# Altium integrated library AMCC PowerPC 405.IntLib: 46 symbols (part 4 of 12)
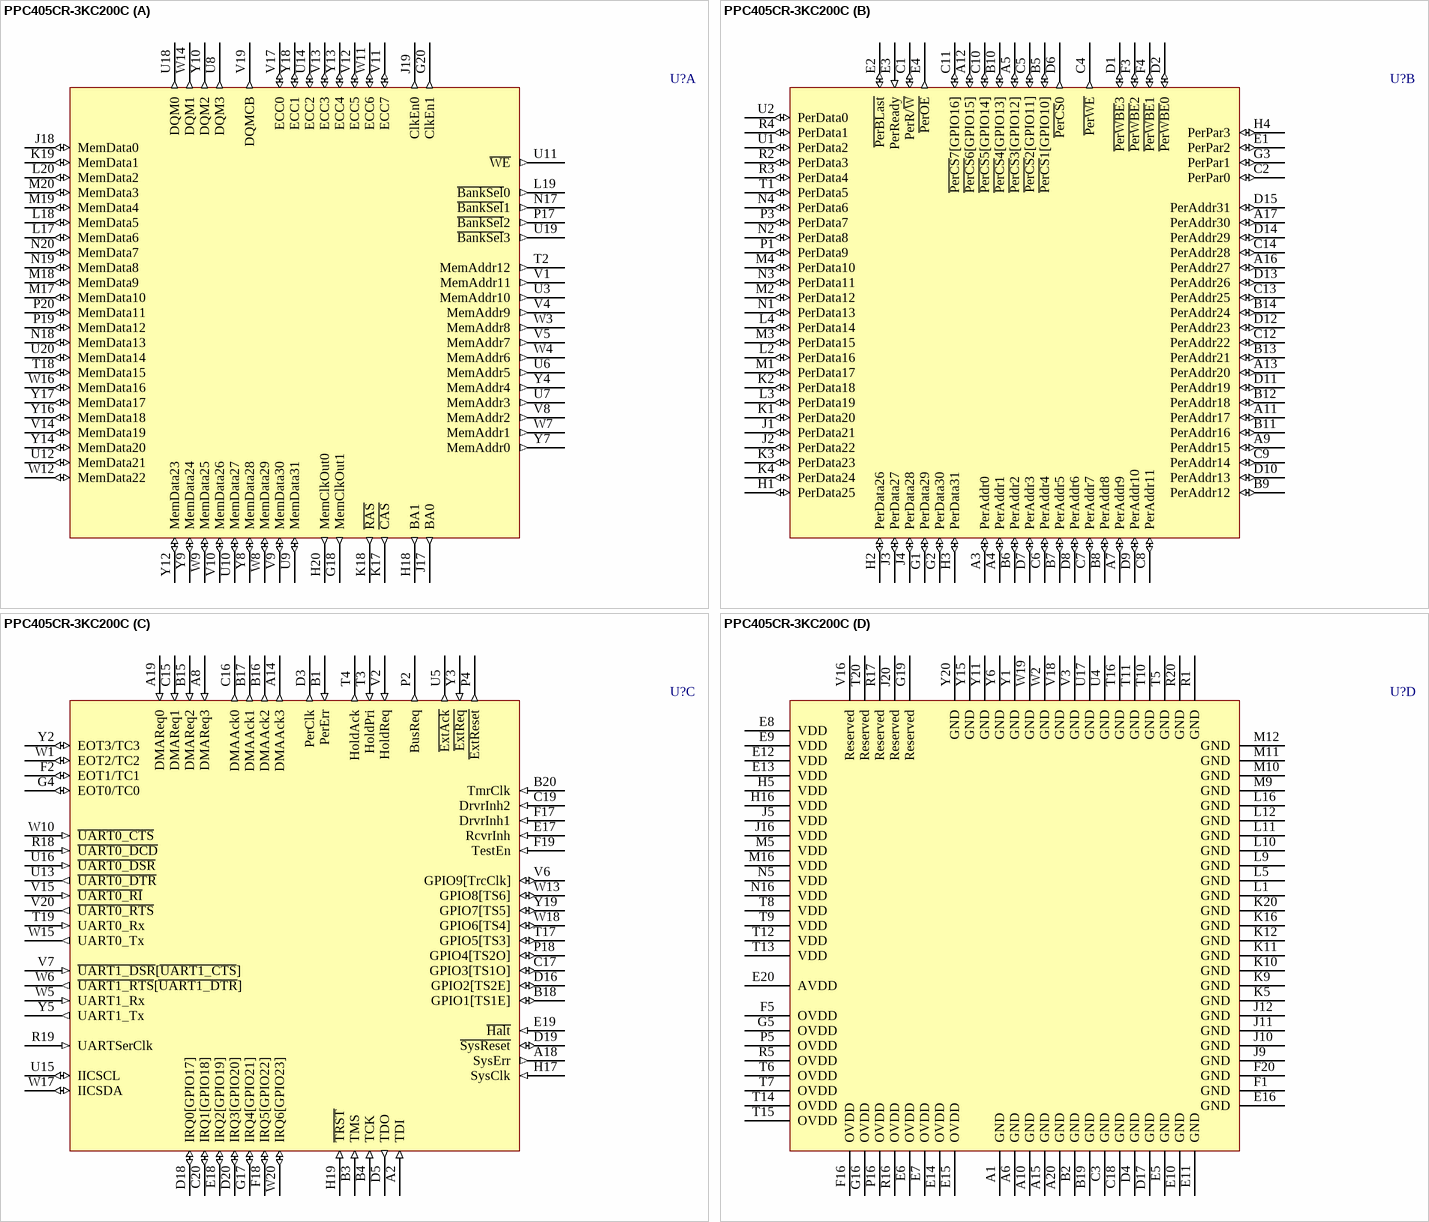
[diagram p121: symbol PPC405CR-3KC200C]

## PPC405CR-3KC200C
designator U?
PowerPC 405CR Embedded Processor, 200 MHz, 27mm, 316 Ball E-PBGA, Pb-Free; Note: Pins J9-J12, K9-K12, L9-L12, and M9-M12 are also Thermal Balls.; Note: Connect G19 to GND. Do not connect signals, VDD or GND to any other Reserved pins.; Published: 6-Jun-2005; LatestRevisionDate: 13-Apr-2006; LatestRevisionNote: IPC-7351 Footprint Added.; DatasheetVersion: rev1.02, Jan-2005; PackageVersion: Jan-2005; PackageReference: E-PBGA316; Publisher: Altium Limited; PackageDescription: 316-Ball Enhanced Plastic Ball Grid Array; ComponentLink1Description: Manufacturer Link; ComponentLink1URL: http://www.amcc.com/; ComponentLink2Description: Datasheet; ComponentLink2URL: https://www.amcc.com/MyAMCC/retrieveDocument/PowerPC/405CR/PPC405CR_DS2007__v1_02.pdf
footprint E-PBGA316 (BGA, 316-Leads, Body 27x27mm, Pitch 1.27mm)
3D model PPC405CR-BGA316 (316-Ball Enhanced Plastic Ball Grid Array)
part A pins: G18 MemClkOut1 (out) "SDRAM Clock", G20 ClkEn1 (out) "SDRAM Clock Enable", H18 BA1 (out) "Bank Address", H20 MemClkOut0 (out) "SDRAM Clock", J17 BA0 (out) "Bank Address", J18 MemData0 (io) "Memory Data Bus (msb)", J19 ClkEn0 (out) "SDRAM Clock Enable", K17 ~{CAS} (out) "Column Address Strobe", K18 ~{RAS} (out) "Row Address Strobe", K19 MemData1 (io) "Memory Data Bus", L17 MemData6 (io) "Memory Data Bus", L18 MemData5 (io) "Memory Data Bus", L19 ~{BankSel}0 (out) "Select External SDRAM Bank", L20 MemData2 (io) "Memory Data Bus", M17 MemData10 (io) "Memory Data Bus", M18 MemData9 (io) "Memory Data Bus", M19 MemData4 (io) "Memory Data Bus", M20 MemData3 (io) "Memory Data Bus", N17 ~{BankSel}1 (out) "Select External SDRAM Bank", N18 MemData13 (io) "Memory Data Bus", N19 MemData8 (io) "Memory Data Bus", N20 MemData7 (io) "Memory Data Bus", P17 ~{BankSel}2 (out) "Select External SDRAM Bank", P19 MemData12 (io) "Memory Data Bus", P20 MemData11 (io) "Memory Data Bus", T2 MemAddr12 (out) "Memory Address Bus (msb)", T18 MemData15 (io) "Memory Data Bus", U3 MemAddr10 (out) "Memory Address Bus", U6 MemAddr5 (out) "Memory Address Bus", U7 MemAddr3 (out) "Memory Address Bus", U8 DQM3 (out) "DQM for byte lane 3 (MemData 24:31)", U9 MemData31 (io) "Memory Data Bus (lsb)", U10 MemData27 (io) "Memory Data Bus", U11 ~{WE} (out) "Write Enable", U12 MemData21 (io) "Memory Data Bus", U14 ECC2 (io) "Error Checking and Correction", U18 DQM0 (out) "DQM for byte lane 0 (MemData 0:7)", U19 ~{BankSel}3 (out) "Select External SDRAM Bank", U20 MemData14 (io) "Memory Data Bus", V1 MemAddr11 (out) "Memory Address Bus", V4 MemAddr9 (out) "Memory Address Bus", V5 MemAddr7 (out) "Memory Address Bus", V8 MemAddr2 (out) "Memory Address Bus", V9 MemData30 (io) "Memory Data Bus", V10 MemData26 (io) "Memory Data Bus", V11 ECC7 (io) "Error Checking and Correction", V12 ECC5 (io) "Error Checking and Correction", V13 ECC3 (io) "Error Checking and Correction", V14 MemData19 (io) "Memory Data Bus", V17 ECC0 (io) "Error Checking and Correction", V19 DQMCB (out) "DQM for ECC check bits", W3 MemAddr8 (out) "Memory Address Bus", W4 MemAddr6 (out) "Memory Address Bus", W7 MemAddr1 (out) "Memory Address Bus", W8 MemData29 (io) "Memory Data Bus", W9 MemData25 (io) "Memory Data Bus", W11 ECC6 (io) "Error Checking and Correction", W12 MemData22 (io) "Memory Data Bus", W14 DQM1 (out) "DQM for byte lane 1 (MemData 8:15)", W16 MemData16 (io) "Memory Data Bus", Y4 MemAddr4 (out) "Memory Address Bus", Y7 MemAddr0 (out) "Memory Address Bus (lsb)", Y8 MemData28 (io) "Memory Data Bus", Y9 MemData24 (io) "Memory Data Bus", Y10 DQM2 (out) "DQM for byte lane 2 (MemData 16:23)", Y12 MemData23 (io) "Memory Data Bus", Y13 ECC4 (io) "Error Checking and Correction", Y14 MemData20 (io) "Memory Data Bus", Y16 MemData18 (io) "Memory Data Bus", Y17 MemData17 (io) "Memory Data Bus", Y18 ECC1 (io) "Error Checking and Correction"
part B pins: A3 PerAddr0 (io) "Peripheral Address Bus (msb)", A4 PerAddr1 (io) "Peripheral Address Bus", A5 ~{PerCS}3[GPIO12] (io) "Peripheral Chip Select Bank 3 or General Purpose I/O", A7 PerAddr9 (io) "Peripheral Address Bus", A9 PerAddr15 (io) "Peripheral Address Bus", A11 PerAddr17 (io) "Peripheral Address Bus", A12 ~{PerCS}6[GPIO15] (io) "Peripheral Chip Select Bank 6 or General Purpose I/O", A13 PerAddr20 (io) "Peripheral Address Bus", A16 PerAddr27 (io) "Peripheral Address Bus", A17 PerAddr30 (io) "Peripheral Address Bus", B5 ~{PerCS}1[GPIO10] (io) "Peripheral Chip Select Bank 1 or General Purpose I/O", B6 PerAddr2 (io) "Peripheral Address Bus", B7 PerAddr5 (io) "Peripheral Address Bus", B8 PerAddr8 (io) "Peripheral Address Bus", B9 PerAddr12 (io) "Peripheral Address Bus", B10 ~{PerCS}4[GPIO13] (io) "Peripheral Chip Select Bank 4 or General Purpose I/O", B11 PerAddr16 (io) "Peripheral Address Bus", B12 PerAddr18 (io) "Peripheral Address Bus", B13 PerAddr21 (io) "Peripheral Address Bus", B14 PerAddr24 (io) "Peripheral Address Bus", C1 PerR/~{W} (io) "Peripheral/DMA Controller Read/Write", C2 PerPar0 (io) "Peripheral Byte Parity Signal", C4 ~{PerWE} (out) "Peripheral Write Enable", C5 ~{PerCS}2[GPIO11] (io) "Peripheral Chip Select Bank 2 or General Purpose I/O", C6 PerAddr4 (io) "Peripheral Address Bus", C7 PerAddr7 (io) "Peripheral Address Bus", C8 PerAddr11 (io) "Peripheral Address Bus", C9 PerAddr14 (io) "Peripheral Address Bus", C10 ~{PerCS}5[GPIO14] (io) "Peripheral Chip Select Bank 5 or General Purpose I/O", C11 ~{PerCS}7[GPIO16] (io) "Peripheral Chip Select Bank 7 or General Purpose I/O", C12 PerAddr22 (io) "Peripheral Address Bus", C13 PerAddr25 (io) "Peripheral Address Bus", C14 PerAddr28 (io) "Peripheral Address Bus", D1 ~{PerWBE}3 (io) "Peripheral Write Byte Enable", D2 ~{PerWBE}0 (io) "Peripheral Write Byte Enable", D6 ~{PerCS}0 (out) "Peripheral Chip Select Bank 0", D7 PerAddr3 (io) "Peripheral Address Bus", D8 PerAddr6 (io) "Peripheral Address Bus", D9 PerAddr10 (io) "Peripheral Address Bus", D10 PerAddr13 (io) "Peripheral Address Bus", D11 PerAddr19 (io) "Peripheral Address Bus", D12 PerAddr23 (io) "Peripheral Address Bus", D13 PerAddr26 (io) "Peripheral Address Bus", D14 PerAddr29 (io) "Peripheral Address Bus", D15 PerAddr31 (io) "Peripheral Address Bus", E1 PerPar2 (io) "Peripheral Byte Parity Signal", E2 ~{PerBLast} (io) ""Last transfer of a memory access" Indicator", E3 PerReady (in) "Peripheral Slave "ready to transfer data" Indicator", E4 ~{PerOE} (out) "Peripheral/DMA Controller Output Enable", F3 ~{PerWBE}2 (io) "Peripheral Write Byte Enable", F4 ~{PerWBE}1 (io) "Peripheral Write Byte Enable", G1 PerData29 (io) "Peripheral Data Bus", G2 PerData30 (io) "Peripheral Data Bus", G3 PerPar1 (io) "Peripheral Byte Parity Signal", H1 PerData25 (io) "Peripheral Data Bus", H2 PerData26 (io) "Peripheral Data Bus", H3 PerData31 (io) "Peripheral Data Bus", H4 PerPar3 (io) "Peripheral Byte Parity Signal", J1 PerData21 (io) "Peripheral Data Bus", J2 PerData22 (io) "Peripheral Data Bus", J3 PerData27 (io) "Peripheral Data Bus", J4 PerData28 (io) "Peripheral Data Bus", K1 PerData20 (io) "Peripheral Data Bus", K2 PerData18 (io) "Peripheral Data Bus", K3 PerData23 (io) "Peripheral Data Bus", K4 PerData24 (io) "Peripheral Data Bus", L2 PerData16 (io) "Peripheral Data Bus", L3 PerData19 (io) "Peripheral Data Bus", L4 PerData14 (io) "Peripheral Data Bus", M1 PerData17 (io) "Peripheral Data Bus", M2 PerData12 (io) "Peripheral Data Bus", M3 PerData15 (io) "Peripheral Data Bus", M4 PerData10 (io) "Peripheral Data Bus", N1 PerData13 (io) "Peripheral Data Bus", N2 PerData8 (io) "Peripheral Data Bus", N3 PerData11 (io) "Peripheral Data Bus", N4 PerData6 (io) "Peripheral Data Bus", P1 PerData9 (io) "Peripheral Data Bus", P3 PerData7 (io) "Peripheral Data Bus", R2 PerData3 (io) "Peripheral Data Bus", R3 PerData4 (io) "Peripheral Data Bus", R4 PerData1 (io) "Peripheral Data Bus", T1 PerData5 (io) "Peripheral Data Bus", U1 PerData2 (io) "Peripheral Data Bus", U2 PerData0 (io) "Peripheral Data Bus (msb)"
part C pins: A2 TDI (in) "Test data in", A8 DMAReq3 (in) "Used by slave peripherals to indicate transfer data readiness", A14 DMAAck3 (out) "Indicates data transfers have occurred", A18 SysErr (out) "Set to 1 when a Machine Check is generated", A19 DMAReq0 (in) "Used by slave peripherals to indicate transfer data readiness", B1 PerErr (in) "External slave peripheral error indicator", B3 TMS (in) "JTAG test mode select", B4 TCK (in) "JTAG test clock", B15 DMAReq2 (in) "Used by slave peripherals to indicate transfer data readiness", B16 DMAAck2 (out) "Indicates data transfers have occurred", B17 DMAAck1 (out) "Indicates data transfers have occurred", B18 GPIO1[TS1E] (io) "General Purpose I/O or Even Trace execution status", B20 TmrClk (in) "External clock input", C15 DMAReq1 (in) "Used by slave peripherals to indicate transfer data readiness", C16 DMAAck0 (out) "Indicates data transfers have occurred", C17 GPIO3[TS1O] (io) "General Purpose I/O or Odd Trace execution status", C19 DrvrInh2 (in) "Driver Inhibit 2", C20 IRQ1[GPIO18] (io) "Interrupt Request or General Purpose I/O", D3 PerClk (out) "Peripheral Clock", D5 TDO (out) "Test data out", D16 GPIO2[TS2E] (io) "General Purpose I/O or Even Trace execution status", D18 IRQ0[GPIO17] (io) "Interrupt Request or General Purpose I/O", D19 ~{SysReset} (io) "Main System Reset", D20 IRQ3[GPIO20] (io) "Interrupt Request or General Purpose I/O", E17 RcvrInh (in) "Receiver Inhibit", E18 IRQ2[GPIO19] (io) "Interrupt Request or General Purpose I/O", E19 ~{Halt} (in) "Halt from external debugger", F2 EOT1/TC1 (io) "End Of Transfer 1/Terminal Count 1", F17 DrvrInh1 (in) "Driver Inhibit 1", F18 IRQ5[GPIO22] (io) "Interrupt Request or General Purpose I/O", F19 TestEn (in) "Test Enable", G4 EOT0/TC0 (io) "End Of Transfer 0/Terminal Count 0", G17 IRQ4[GPIO21] (io) "Interrupt Request or General Purpose I/O", H17 SysClk (in) "Main System Clock input", H19 ~{TRST} (in) "JTAG reset", P2 BusReq (out) "For PPC405CR to regain control of peripheral interface from an external master", P4 ~{ExtReset} (out) "Peripheral Reset", P18 GPIO4[TS2O] (io) "General Purpose I/O or Odd Trace execution status", R18 ~{UART0_DCD} (in) "UART0 Data Carrier Detect", R19 UARTSerClk (in) "UART Serial clock", T3 HoldPri (in) "External Master Priority Indicator", T4 HoldAck (out) "Hold Acknowledge", T17 GPIO5[TS3] (io) "General Purpose I/O or Trace status", T19 UART0_Rx (in) "UART0 Receive (serial data in)", U5 ~{ExtAck} (out) "Data Transfer Cycle Indicator", U13 ~{UART0_DTR} (out) "UART0 Data Terminal Ready", U15 IICSCL (io) "IIC Serial Clock", U16 ~{UART0_DSR} (in) "UART0 Data Set Ready", V2 HoldReq (in) "Hold Request", V6 GPIO9[TrcClk] (io) "General Purpose I/O or Trace interface clock", V7 ~{UART1_DSR}[~{UART1_CTS}] (in) "UART1 Data Set Ready or UART1 Clear To Send", V15 ~{UART0_RI} (in) "UART0 Ring Indicator", V20 ~{UART0_RTS} (out) "UART0 Request To Send", W1 EOT2/TC2 (io) "End Of Transfer 2/Terminal Count 2", W5 UART1_Rx (in) "UART1 Receive (serial data in)", W6 ~{UART1_RTS}[~{UART1_DTR}] (out) "UART1 Request To Send or UART1 Data Terminal Ready", W10 ~{UART0_CTS} (in) "UART0 Clear To Send", W13 GPIO8[TS6] (io) "General Purpose I/O or Trace status", W15 UART0_Tx (out) "UART0 Transmit (serial data out)", W17 IICSDA (io) "IIC Serial Data", W18 GPIO6[TS4] (io) "General Purpose I/O or Trace status", W20 IRQ6[GPIO23] (io) "Interrupt Request or General Purpose I/O", Y2 EOT3/TC3 (io) "End Of Transfer 3/Terminal Count 3", Y3 ~{ExtReq} (in) "External Master "Data transfer preparedness" Indicator", Y5 UART1_Tx (out) "UART1 Transmit (serial data out)", Y19 GPIO7[TS5] (io) "General Purpose I/O or Trace status"
part D pins: A1 GND (power) "Ground", A6 GND (power) "Ground", A10 GND (power) "Ground", A15 GND (power) "Ground", A20 GND (power) "Ground", B2 GND (power) "Ground", B19 GND (power) "Ground", C3 GND (power) "Ground", C18 GND (power) "Ground", D4 GND (power) "Ground", D17 GND (power) "Ground", E5 GND (power) "Ground", E6 OVDD (power) "Output Driver Voltage - 3.3V", E7 OVDD (power) "Output Driver Voltage - 3.3V", E8 VDD (power) "Logic Voltage - 2.5V", E9 VDD (power) "Logic Voltage - 2.5V", E10 GND (power) "Ground", E11 GND (power) "Ground", E12 VDD (power) "Logic Voltage - 2.5V", E13 VDD (power) "Logic Voltage - 2.5V", E14 OVDD (power) "Output Driver Voltage - 3.3V", E15 OVDD (power) "Output Driver Voltage - 3.3V", E16 GND (power) "Ground", E20 AVDD (power) "Filtered voltage input for PLL circuits", F1 GND (power) "Ground", F5 OVDD (power) "Output Driver Voltage - 3.3V", F16 OVDD (power) "Output Driver Voltage - 3.3V", F20 GND (power) "Ground", G5 OVDD (power) "Output Driver Voltage - 3.3V", G16 OVDD (power) "Output Driver Voltage - 3.3V", G19 Reserved "Reserve pin. Connect to GND", H5 VDD (power) "Logic Voltage - 2.5V", H16 VDD (power) "Logic Voltage - 2.5V", J5 VDD (power) "Logic Voltage - 2.5V", J9 GND (power) "Ground. Also a thermal ball", J10 GND (power) "Ground. Also a thermal ball", J11 GND (power) "Ground. Also a thermal ball", J12 GND (power) "Ground. Also a thermal ball", J16 VDD (power) "Logic Voltage - 2.5V", J20 Reserved "Reserve pin. Not to be connected to signals, VDD or GND", K5 GND (power) "Ground", K9 GND (power) "Ground. Also a thermal ball", K10 GND (power) "Ground. Also a thermal ball", K11 GND (power) "Ground. Also a thermal ball", K12 GND (power) "Ground. Also a thermal ball", K16 GND (power) "Ground", K20 GND (power) "Ground", L1 GND (power) "Ground", L5 GND (power) "Ground", L9 GND (power) "Ground. Also a thermal ball", L10 GND (power) "Ground. Also a thermal ball", L11 GND (power) "Ground. Also a thermal ball", L12 GND (power) "Ground. Also a thermal ball", L16 GND (power) "Ground", M5 VDD (power) "Logic Voltage - 2.5V", M9 GND (power) "Ground. Also a thermal ball", M10 GND (power) "Ground. Also a thermal ball", M11 GND (power) "Ground. Also a thermal ball", M12 GND (power) "Ground. Also a thermal ball", M16 VDD (power) "Logic Voltage - 2.5V", N5 VDD (power) "Logic Voltage - 2.5V", N16 VDD (power) "Logic Voltage - 2.5V", P5 OVDD (power) "Output Driver Voltage - 3.3V", P16 OVDD (power) "Output Driver Voltage - 3.3V", R1 GND (power) "Ground", R5 OVDD (power) "Output Driver Voltage - 3.3V", R16 OVDD (power) "Output Driver Voltage - 3.3V", R17 Reserved "Reserve pin. Not to be connected to signals, VDD or GND", R20 GND (power) "Ground", T5 GND (power) "Ground", T6 OVDD (power) "Output Driver Voltage - 3.3V", T7 OVDD (power) "Output Driver Voltage - 3.3V", T8 VDD (power) "Logic Voltage - 2.5V", T9 VDD (power) "Logic Voltage - 2.5V", T10 GND (power) "Ground", T11 GND (power) "Ground", T12 VDD (power) "Logic Voltage - 2.5V", T13 VDD (power) "Logic Voltage - 2.5V", T14 OVDD (power) "Output Driver Voltage - 3.3V", T15 OVDD (power) "Output Driver Voltage - 3.3V", T16 GND (power) "Ground", T20 Reserved "Reserve pin. Not to be connected to signals, VDD or GND", U4 GND (power) "Ground", U17 GND (power) "Ground", V3 GND (power) "Ground", V16 Reserved "Reserve pin. Not to be connected to signals, VDD or GND", V18 GND (power) "Ground", W2 GND (power) "Ground", W19 GND (power) "Ground", Y1 GND (power) "Ground", Y6 GND (power) "Ground", Y11 GND (power) "Ground", Y15 GND (power) "Ground", Y20 GND (power) "Ground"

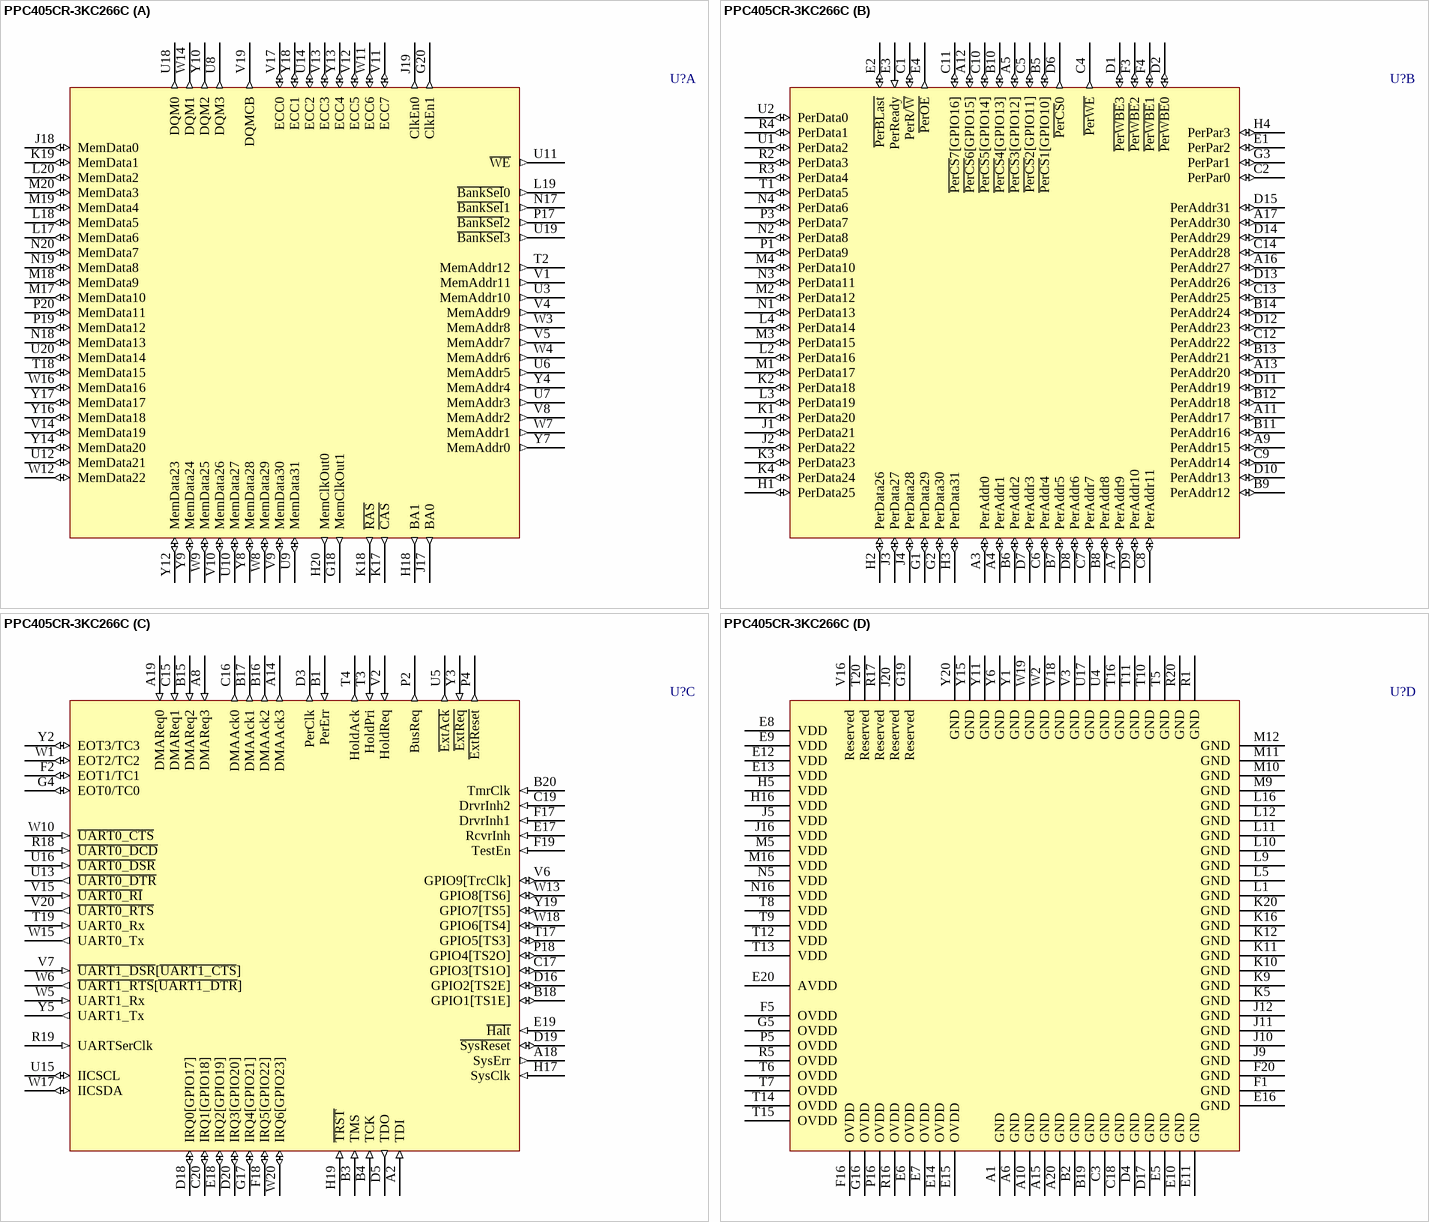
[diagram p16: symbol PPC405CR-3KC266C]

## PPC405CR-3KC266C
designator U?
PowerPC 405CR Embedded Processor, 266 MHz, 27mm, 316 Ball E-PBGA, Pb-Free; Note: Pins J9-J12, K9-K12, L9-L12, and M9-M12 are also Thermal Balls.; Note: Connect G19 to GND. Do not connect signals, VDD or GND to any other Reserved pins.; Published: 6-Jun-2005; LatestRevisionDate: 13-Apr-2006; LatestRevisionNote: IPC-7351 Footprint Added.; DatasheetVersion: rev1.02, Jan-2005; PackageVersion: Jan-2005; PackageReference: E-PBGA316; Publisher: Altium Limited; PackageDescription: 316-Ball Enhanced Plastic Ball Grid Array; ComponentLink1Description: Manufacturer Link; ComponentLink1URL: http://www.amcc.com/; ComponentLink2Description: Datasheet; ComponentLink2URL: https://www.amcc.com/MyAMCC/retrieveDocument/PowerPC/405CR/PPC405CR_DS2007__v1_02.pdf
footprint E-PBGA316 (BGA, 316-Leads, Body 27x27mm, Pitch 1.27mm)
3D model PPC405CR-BGA316 (316-Ball Enhanced Plastic Ball Grid Array)
part A pins: G18 MemClkOut1 (out) "SDRAM Clock", G20 ClkEn1 (out) "SDRAM Clock Enable", H18 BA1 (out) "Bank Address", H20 MemClkOut0 (out) "SDRAM Clock", J17 BA0 (out) "Bank Address", J18 MemData0 (io) "Memory Data Bus (msb)", J19 ClkEn0 (out) "SDRAM Clock Enable", K17 ~{CAS} (out) "Column Address Strobe", K18 ~{RAS} (out) "Row Address Strobe", K19 MemData1 (io) "Memory Data Bus", L17 MemData6 (io) "Memory Data Bus", L18 MemData5 (io) "Memory Data Bus", L19 ~{BankSel}0 (out) "Select External SDRAM Bank", L20 MemData2 (io) "Memory Data Bus", M17 MemData10 (io) "Memory Data Bus", M18 MemData9 (io) "Memory Data Bus", M19 MemData4 (io) "Memory Data Bus", M20 MemData3 (io) "Memory Data Bus", N17 ~{BankSel}1 (out) "Select External SDRAM Bank", N18 MemData13 (io) "Memory Data Bus", N19 MemData8 (io) "Memory Data Bus", N20 MemData7 (io) "Memory Data Bus", P17 ~{BankSel}2 (out) "Select External SDRAM Bank", P19 MemData12 (io) "Memory Data Bus", P20 MemData11 (io) "Memory Data Bus", T2 MemAddr12 (out) "Memory Address Bus (msb)", T18 MemData15 (io) "Memory Data Bus", U3 MemAddr10 (out) "Memory Address Bus", U6 MemAddr5 (out) "Memory Address Bus", U7 MemAddr3 (out) "Memory Address Bus", U8 DQM3 (out) "DQM for byte lane 3 (MemData 24:31)", U9 MemData31 (io) "Memory Data Bus (lsb)", U10 MemData27 (io) "Memory Data Bus", U11 ~{WE} (out) "Write Enable", U12 MemData21 (io) "Memory Data Bus", U14 ECC2 (io) "Error Checking and Correction", U18 DQM0 (out) "DQM for byte lane 0 (MemData 0:7)", U19 ~{BankSel}3 (out) "Select External SDRAM Bank", U20 MemData14 (io) "Memory Data Bus", V1 MemAddr11 (out) "Memory Address Bus", V4 MemAddr9 (out) "Memory Address Bus", V5 MemAddr7 (out) "Memory Address Bus", V8 MemAddr2 (out) "Memory Address Bus", V9 MemData30 (io) "Memory Data Bus", V10 MemData26 (io) "Memory Data Bus", V11 ECC7 (io) "Error Checking and Correction", V12 ECC5 (io) "Error Checking and Correction", V13 ECC3 (io) "Error Checking and Correction", V14 MemData19 (io) "Memory Data Bus", V17 ECC0 (io) "Error Checking and Correction", V19 DQMCB (out) "DQM for ECC check bits", W3 MemAddr8 (out) "Memory Address Bus", W4 MemAddr6 (out) "Memory Address Bus", W7 MemAddr1 (out) "Memory Address Bus", W8 MemData29 (io) "Memory Data Bus", W9 MemData25 (io) "Memory Data Bus", W11 ECC6 (io) "Error Checking and Correction", W12 MemData22 (io) "Memory Data Bus", W14 DQM1 (out) "DQM for byte lane 1 (MemData 8:15)", W16 MemData16 (io) "Memory Data Bus", Y4 MemAddr4 (out) "Memory Address Bus", Y7 MemAddr0 (out) "Memory Address Bus (lsb)", Y8 MemData28 (io) "Memory Data Bus", Y9 MemData24 (io) "Memory Data Bus", Y10 DQM2 (out) "DQM for byte lane 2 (MemData 16:23)", Y12 MemData23 (io) "Memory Data Bus", Y13 ECC4 (io) "Error Checking and Correction", Y14 MemData20 (io) "Memory Data Bus", Y16 MemData18 (io) "Memory Data Bus", Y17 MemData17 (io) "Memory Data Bus", Y18 ECC1 (io) "Error Checking and Correction"
part B pins: A3 PerAddr0 (io) "Peripheral Address Bus (msb)", A4 PerAddr1 (io) "Peripheral Address Bus", A5 ~{PerCS}3[GPIO12] (io) "Peripheral Chip Select Bank 3 or General Purpose I/O", A7 PerAddr9 (io) "Peripheral Address Bus", A9 PerAddr15 (io) "Peripheral Address Bus", A11 PerAddr17 (io) "Peripheral Address Bus", A12 ~{PerCS}6[GPIO15] (io) "Peripheral Chip Select Bank 6 or General Purpose I/O", A13 PerAddr20 (io) "Peripheral Address Bus", A16 PerAddr27 (io) "Peripheral Address Bus", A17 PerAddr30 (io) "Peripheral Address Bus", B5 ~{PerCS}1[GPIO10] (io) "Peripheral Chip Select Bank 1 or General Purpose I/O", B6 PerAddr2 (io) "Peripheral Address Bus", B7 PerAddr5 (io) "Peripheral Address Bus", B8 PerAddr8 (io) "Peripheral Address Bus", B9 PerAddr12 (io) "Peripheral Address Bus", B10 ~{PerCS}4[GPIO13] (io) "Peripheral Chip Select Bank 4 or General Purpose I/O", B11 PerAddr16 (io) "Peripheral Address Bus", B12 PerAddr18 (io) "Peripheral Address Bus", B13 PerAddr21 (io) "Peripheral Address Bus", B14 PerAddr24 (io) "Peripheral Address Bus", C1 PerR/~{W} (io) "Peripheral/DMA Controller Read/Write", C2 PerPar0 (io) "Peripheral Byte Parity Signal", C4 ~{PerWE} (out) "Peripheral Write Enable", C5 ~{PerCS}2[GPIO11] (io) "Peripheral Chip Select Bank 2 or General Purpose I/O", C6 PerAddr4 (io) "Peripheral Address Bus", C7 PerAddr7 (io) "Peripheral Address Bus", C8 PerAddr11 (io) "Peripheral Address Bus", C9 PerAddr14 (io) "Peripheral Address Bus", C10 ~{PerCS}5[GPIO14] (io) "Peripheral Chip Select Bank 5 or General Purpose I/O", C11 ~{PerCS}7[GPIO16] (io) "Peripheral Chip Select Bank 7 or General Purpose I/O", C12 PerAddr22 (io) "Peripheral Address Bus", C13 PerAddr25 (io) "Peripheral Address Bus", C14 PerAddr28 (io) "Peripheral Address Bus", D1 ~{PerWBE}3 (io) "Peripheral Write Byte Enable", D2 ~{PerWBE}0 (io) "Peripheral Write Byte Enable", D6 ~{PerCS}0 (out) "Peripheral Chip Select Bank 0", D7 PerAddr3 (io) "Peripheral Address Bus", D8 PerAddr6 (io) "Peripheral Address Bus", D9 PerAddr10 (io) "Peripheral Address Bus", D10 PerAddr13 (io) "Peripheral Address Bus", D11 PerAddr19 (io) "Peripheral Address Bus", D12 PerAddr23 (io) "Peripheral Address Bus", D13 PerAddr26 (io) "Peripheral Address Bus", D14 PerAddr29 (io) "Peripheral Address Bus", D15 PerAddr31 (io) "Peripheral Address Bus", E1 PerPar2 (io) "Peripheral Byte Parity Signal", E2 ~{PerBLast} (io) ""Last transfer of a memory access" Indicator", E3 PerReady (in) "Peripheral Slave "ready to transfer data" Indicator", E4 ~{PerOE} (out) "Peripheral/DMA Controller Output Enable", F3 ~{PerWBE}2 (io) "Peripheral Write Byte Enable", F4 ~{PerWBE}1 (io) "Peripheral Write Byte Enable", G1 PerData29 (io) "Peripheral Data Bus", G2 PerData30 (io) "Peripheral Data Bus", G3 PerPar1 (io) "Peripheral Byte Parity Signal", H1 PerData25 (io) "Peripheral Data Bus", H2 PerData26 (io) "Peripheral Data Bus", H3 PerData31 (io) "Peripheral Data Bus", H4 PerPar3 (io) "Peripheral Byte Parity Signal", J1 PerData21 (io) "Peripheral Data Bus", J2 PerData22 (io) "Peripheral Data Bus", J3 PerData27 (io) "Peripheral Data Bus", J4 PerData28 (io) "Peripheral Data Bus", K1 PerData20 (io) "Peripheral Data Bus", K2 PerData18 (io) "Peripheral Data Bus", K3 PerData23 (io) "Peripheral Data Bus", K4 PerData24 (io) "Peripheral Data Bus", L2 PerData16 (io) "Peripheral Data Bus", L3 PerData19 (io) "Peripheral Data Bus", L4 PerData14 (io) "Peripheral Data Bus", M1 PerData17 (io) "Peripheral Data Bus", M2 PerData12 (io) "Peripheral Data Bus", M3 PerData15 (io) "Peripheral Data Bus", M4 PerData10 (io) "Peripheral Data Bus", N1 PerData13 (io) "Peripheral Data Bus", N2 PerData8 (io) "Peripheral Data Bus", N3 PerData11 (io) "Peripheral Data Bus", N4 PerData6 (io) "Peripheral Data Bus", P1 PerData9 (io) "Peripheral Data Bus", P3 PerData7 (io) "Peripheral Data Bus", R2 PerData3 (io) "Peripheral Data Bus", R3 PerData4 (io) "Peripheral Data Bus", R4 PerData1 (io) "Peripheral Data Bus", T1 PerData5 (io) "Peripheral Data Bus", U1 PerData2 (io) "Peripheral Data Bus", U2 PerData0 (io) "Peripheral Data Bus (msb)"
part C pins: A2 TDI (in) "Test data in", A8 DMAReq3 (in) "Used by slave peripherals to indicate transfer data readiness", A14 DMAAck3 (out) "Indicates data transfers have occurred", A18 SysErr (out) "Set to 1 when a Machine Check is generated", A19 DMAReq0 (in) "Used by slave peripherals to indicate transfer data readiness", B1 PerErr (in) "External slave peripheral error indicator", B3 TMS (in) "JTAG test mode select", B4 TCK (in) "JTAG test clock", B15 DMAReq2 (in) "Used by slave peripherals to indicate transfer data readiness", B16 DMAAck2 (out) "Indicates data transfers have occurred", B17 DMAAck1 (out) "Indicates data transfers have occurred", B18 GPIO1[TS1E] (io) "General Purpose I/O or Even Trace execution status", B20 TmrClk (in) "External clock input", C15 DMAReq1 (in) "Used by slave peripherals to indicate transfer data readiness", C16 DMAAck0 (out) "Indicates data transfers have occurred", C17 GPIO3[TS1O] (io) "General Purpose I/O or Odd Trace execution status", C19 DrvrInh2 (in) "Driver Inhibit 2", C20 IRQ1[GPIO18] (io) "Interrupt Request or General Purpose I/O", D3 PerClk (out) "Peripheral Clock", D5 TDO (out) "Test data out", D16 GPIO2[TS2E] (io) "General Purpose I/O or Even Trace execution status", D18 IRQ0[GPIO17] (io) "Interrupt Request or General Purpose I/O", D19 ~{SysReset} (io) "Main System Reset", D20 IRQ3[GPIO20] (io) "Interrupt Request or General Purpose I/O", E17 RcvrInh (in) "Receiver Inhibit", E18 IRQ2[GPIO19] (io) "Interrupt Request or General Purpose I/O", E19 ~{Halt} (in) "Halt from external debugger", F2 EOT1/TC1 (io) "End Of Transfer 1/Terminal Count 1", F17 DrvrInh1 (in) "Driver Inhibit 1", F18 IRQ5[GPIO22] (io) "Interrupt Request or General Purpose I/O", F19 TestEn (in) "Test Enable", G4 EOT0/TC0 (io) "End Of Transfer 0/Terminal Count 0", G17 IRQ4[GPIO21] (io) "Interrupt Request or General Purpose I/O", H17 SysClk (in) "Main System Clock input", H19 ~{TRST} (in) "JTAG reset", P2 BusReq (out) "For PPC405CR to regain control of peripheral interface from an external master", P4 ~{ExtReset} (out) "Peripheral Reset", P18 GPIO4[TS2O] (io) "General Purpose I/O or Odd Trace execution status", R18 ~{UART0_DCD} (in) "UART0 Data Carrier Detect", R19 UARTSerClk (in) "UART Serial clock", T3 HoldPri (in) "External Master Priority Indicator", T4 HoldAck (out) "Hold Acknowledge", T17 GPIO5[TS3] (io) "General Purpose I/O or Trace status", T19 UART0_Rx (in) "UART0 Receive (serial data in)", U5 ~{ExtAck} (out) "Data Transfer Cycle Indicator", U13 ~{UART0_DTR} (out) "UART0 Data Terminal Ready", U15 IICSCL (io) "IIC Serial Clock", U16 ~{UART0_DSR} (in) "UART0 Data Set Ready", V2 HoldReq (in) "Hold Request", V6 GPIO9[TrcClk] (io) "General Purpose I/O or Trace interface clock", V7 ~{UART1_DSR}[~{UART1_CTS}] (in) "UART1 Data Set Ready or UART1 Clear To Send", V15 ~{UART0_RI} (in) "UART0 Ring Indicator", V20 ~{UART0_RTS} (out) "UART0 Request To Send", W1 EOT2/TC2 (io) "End Of Transfer 2/Terminal Count 2", W5 UART1_Rx (in) "UART1 Receive (serial data in)", W6 ~{UART1_RTS}[~{UART1_DTR}] (out) "UART1 Request To Send or UART1 Data Terminal Ready", W10 ~{UART0_CTS} (in) "UART0 Clear To Send", W13 GPIO8[TS6] (io) "General Purpose I/O or Trace status", W15 UART0_Tx (out) "UART0 Transmit (serial data out)", W17 IICSDA (io) "IIC Serial Data", W18 GPIO6[TS4] (io) "General Purpose I/O or Trace status", W20 IRQ6[GPIO23] (io) "Interrupt Request or General Purpose I/O", Y2 EOT3/TC3 (io) "End Of Transfer 3/Terminal Count 3", Y3 ~{ExtReq} (in) "External Master "Data transfer preparedness" Indicator", Y5 UART1_Tx (out) "UART1 Transmit (serial data out)", Y19 GPIO7[TS5] (io) "General Purpose I/O or Trace status"
part D pins: A1 GND (power) "Ground", A6 GND (power) "Ground", A10 GND (power) "Ground", A15 GND (power) "Ground", A20 GND (power) "Ground", B2 GND (power) "Ground", B19 GND (power) "Ground", C3 GND (power) "Ground", C18 GND (power) "Ground", D4 GND (power) "Ground", D17 GND (power) "Ground", E5 GND (power) "Ground", E6 OVDD (power) "Output Driver Voltage - 3.3V", E7 OVDD (power) "Output Driver Voltage - 3.3V", E8 VDD (power) "Logic Voltage - 2.5V", E9 VDD (power) "Logic Voltage - 2.5V", E10 GND (power) "Ground", E11 GND (power) "Ground", E12 VDD (power) "Logic Voltage - 2.5V", E13 VDD (power) "Logic Voltage - 2.5V", E14 OVDD (power) "Output Driver Voltage - 3.3V", E15 OVDD (power) "Output Driver Voltage - 3.3V", E16 GND (power) "Ground", E20 AVDD (power) "Filtered voltage input for PLL circuits", F1 GND (power) "Ground", F5 OVDD (power) "Output Driver Voltage - 3.3V", F16 OVDD (power) "Output Driver Voltage - 3.3V", F20 GND (power) "Ground", G5 OVDD (power) "Output Driver Voltage - 3.3V", G16 OVDD (power) "Output Driver Voltage - 3.3V", G19 Reserved "Reserve pin. Connect to GND", H5 VDD (power) "Logic Voltage - 2.5V", H16 VDD (power) "Logic Voltage - 2.5V", J5 VDD (power) "Logic Voltage - 2.5V", J9 GND (power) "Ground. Also a thermal ball", J10 GND (power) "Ground. Also a thermal ball", J11 GND (power) "Ground. Also a thermal ball", J12 GND (power) "Ground. Also a thermal ball", J16 VDD (power) "Logic Voltage - 2.5V", J20 Reserved "Reserve pin. Not to be connected to signals, VDD or GND", K5 GND (power) "Ground", K9 GND (power) "Ground. Also a thermal ball", K10 GND (power) "Ground. Also a thermal ball", K11 GND (power) "Ground. Also a thermal ball", K12 GND (power) "Ground. Also a thermal ball", K16 GND (power) "Ground", K20 GND (power) "Ground", L1 GND (power) "Ground", L5 GND (power) "Ground", L9 GND (power) "Ground. Also a thermal ball", L10 GND (power) "Ground. Also a thermal ball", L11 GND (power) "Ground. Also a thermal ball", L12 GND (power) "Ground. Also a thermal ball", L16 GND (power) "Ground", M5 VDD (power) "Logic Voltage - 2.5V", M9 GND (power) "Ground. Also a thermal ball", M10 GND (power) "Ground. Also a thermal ball", M11 GND (power) "Ground. Also a thermal ball", M12 GND (power) "Ground. Also a thermal ball", M16 VDD (power) "Logic Voltage - 2.5V", N5 VDD (power) "Logic Voltage - 2.5V", N16 VDD (power) "Logic Voltage - 2.5V", P5 OVDD (power) "Output Driver Voltage - 3.3V", P16 OVDD (power) "Output Driver Voltage - 3.3V", R1 GND (power) "Ground", R5 OVDD (power) "Output Driver Voltage - 3.3V", R16 OVDD (power) "Output Driver Voltage - 3.3V", R17 Reserved "Reserve pin. Not to be connected to signals, VDD or GND", R20 GND (power) "Ground", T5 GND (power) "Ground", T6 OVDD (power) "Output Driver Voltage - 3.3V", T7 OVDD (power) "Output Driver Voltage - 3.3V", T8 VDD (power) "Logic Voltage - 2.5V", T9 VDD (power) "Logic Voltage - 2.5V", T10 GND (power) "Ground", T11 GND (power) "Ground", T12 VDD (power) "Logic Voltage - 2.5V", T13 VDD (power) "Logic Voltage - 2.5V", T14 OVDD (power) "Output Driver Voltage - 3.3V", T15 OVDD (power) "Output Driver Voltage - 3.3V", T16 GND (power) "Ground", T20 Reserved "Reserve pin. Not to be connected to signals, VDD or GND", U4 GND (power) "Ground", U17 GND (power) "Ground", V3 GND (power) "Ground", V16 Reserved "Reserve pin. Not to be connected to signals, VDD or GND", V18 GND (power) "Ground", W2 GND (power) "Ground", W19 GND (power) "Ground", Y1 GND (power) "Ground", Y6 GND (power) "Ground", Y11 GND (power) "Ground", Y15 GND (power) "Ground", Y20 GND (power) "Ground"

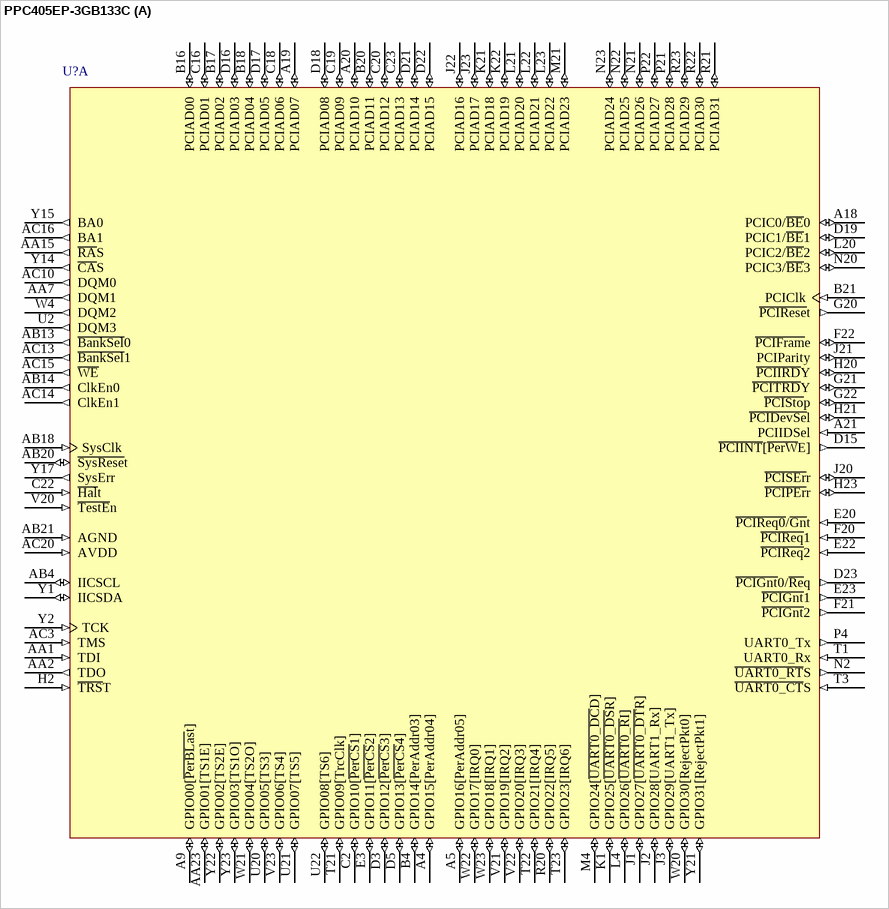
[diagram p17: symbol PPC405EP-3GB133C]

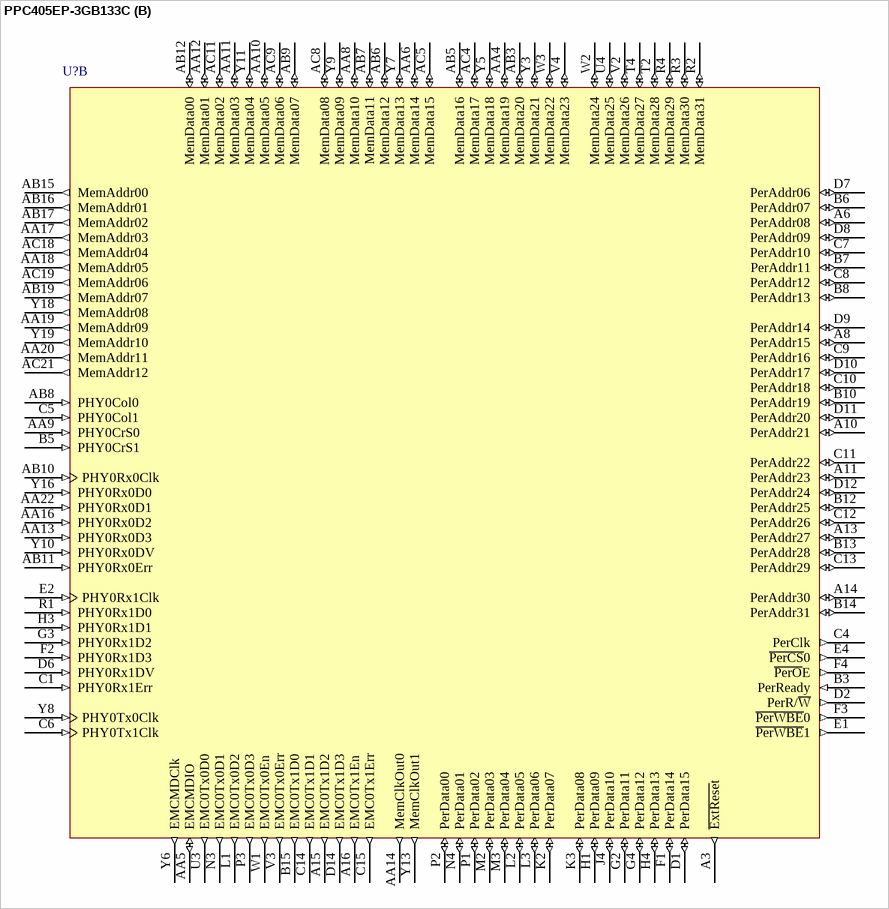
[diagram p18: symbol PPC405EP-3GB133C]

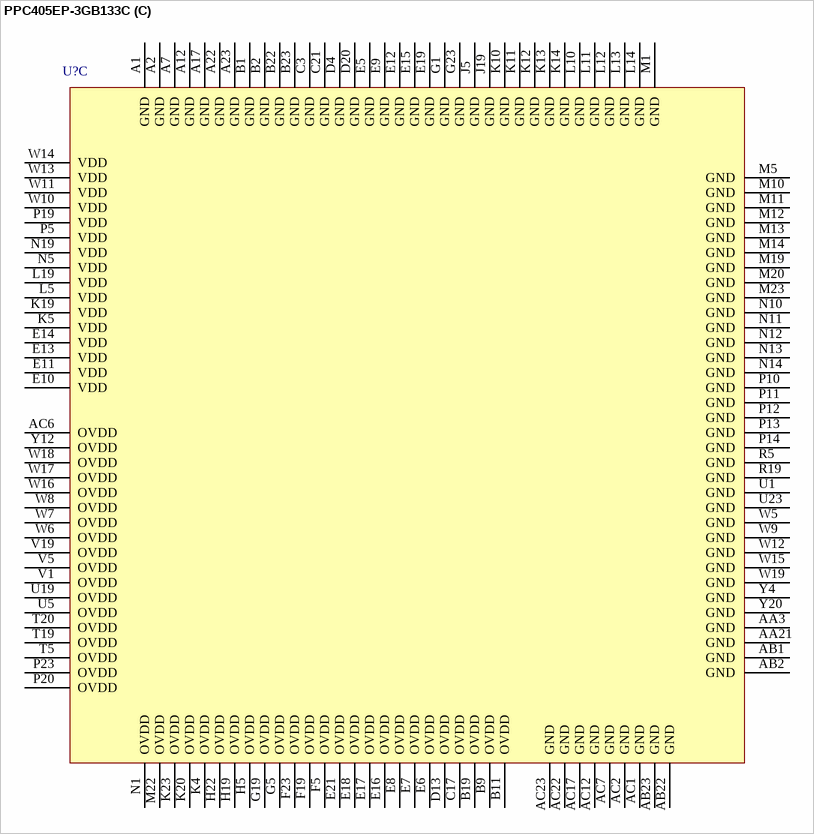
[diagram p19: symbol PPC405EP-3GB133C]

## PPC405EP-3GB133C
designator U?
PowerPC 405EP Embedded Processor, 133MHz, 31mm, 385 Ball E-PBGA; Published: 6-Oct-2005; LatestRevisionDate: 13-Apr-2006; LatestRevisionNote: IPC-7351 Footprint Added.; DatasheetVersion: rev1.02, Jan-2005; PackageVersion: Jan-2005; PackageReference: E-PBGA385; Publisher: Altium Limited; PackageDescription: 385-Ball Enhanced Plastic Ball Grid Array; ComponentLink1Description: Manufacturer Link; ComponentLink1URL: http://www.amcc.com/; ComponentLink2Description: Datasheet; ComponentLink2URL: https://www.amcc.com/MyAMCC/retrieveDocument/PowerPC/405EP/PPC405EP_DS2003__v1_02.pdf
footprint E-PBGA385 (BGA, 385-Leads, Body 31x31mm, Pitch 1.27mm)
3D model PPC405EP-E-PBGA385 (385-Ball Enhanced Plastic Ball Grid Array)
part A pins: A4 GPIO15[PerAddr04] (io), A5 GPIO16[PerAddr05] (io), A9 GPIO00[~{PerBLas}t] (io), A18 PCIC0/~{BE}0 (io), A19 PCIAD07 (io), A20 PCIAD10 (io), A21 PCIIDSel (in), AA1 TDI (in), AA2 TDO (out), AA7 DQM1 (out), AA15 ~{RA}S (out), AA23 GPIO01[TS1E] (io), AB4 IICSCL (io), AB13 ~{BankSel}0 (out), AB14 ClkEn0 (out), AB18 SysClk (in), AB20 ~{SysRese}t (io), AB21 AGND (in), AC3 TMS (in), AC10 DQM0 (out), AC13 ~{BankSel}1 (out), AC14 ClkEn1 (out), AC15 ~{WE} (out), AC16 BA1 (out), AC20 AVDD (in), B4 GPIO14[PerAddr03] (io), B16 PCIAD00 (io), B17 PCIAD02 (io), B18 PCIAD04 (io), B20 PCIAD11 (io), B21 PCIClk (in), C2 GPIO10[~{PerCS}1] (io), C16 PCIAD01 (io), C18 PCIAD06 (io), C19 PCIAD09 (io), C20 PCIAD12 (io), C22 ~{Hal}t (in), C23 PCIAD13 (io), D3 GPIO12[~{PerCS}3] (io), D5 GPIO13[~{PerCS}4] (io), D15 ~{PCIINT}[~{PerW}E] (out), D16 PCIAD03 (io), D17 PCIAD05 (io), D18 PCIAD08 (io), D19 PCIC1/~{BE}1 (io), D21 PCIAD14 (io), D22 PCIAD15 (io), D23 ~{PCIGnt}0/~{Re}q (out), E3 GPIO11[~{PerCS}2] (io), E20 ~{PCIReq0}/~{Gn}t (in), E22 ~{PCIReq}2 (in), E23 ~{PCIGnt}1 (out), F20 ~{PCIReq}1 (in), F21 ~{PCIGnt}2 (out), F22 ~{PCIFram}e (io), G20 ~{PCIRese}t (out), G21 ~{PCITRD}Y (io), G22 ~{PCISto}p (io), H2 ~{TRS}T (in), H20 ~{PCIIRD}Y (io), H21 ~{PCIDevSe}l (io), H23 ~{PCIPEr}r (io), J1 GPIO27[~{UART0_DT}R] (io), J2 GPIO28[UART1_Rx] (io), J3 GPIO29[UART1_Tx] (io), J20 ~{PCISEr}r (io), J21 PCIParity (io), J22 PCIAD16 (io), J23 PCIAD17 (io), K1 GPIO25[~{UART0_DS}R] (io), K21 PCIAD18 (io), K22 PCIAD19 (io), L4 GPIO26[~{UART0_R}I] (io), L20 PCIC2/~{BE}2 (io), L21 PCIAD20 (io), L22 PCIAD21 (io), L23 PCIAD22 (io), M4 GPIO24[~{UART0_DC}D] (io), M21 PCIAD23 (io), N2 ~{UART0_RT}S (out), N20 PCIC3/~{BE}3 (io), N21 PCIAD26 (io), N22 PCIAD25 (io), N23 PCIAD24 (io), P4 UART0_Tx (out), P21 PCIAD28 (io), P22 PCIAD27 (io), R20 GPIO22[IRQ5] (io), R21 PCIAD31 (io), R22 PCIAD30 (io), R23 PCIAD29 (io), T1 UART0_Rx (in), T3 ~{UART0_CT}S (in), T21 GPIO09[TrcClk] (io), T22 GPIO21[IRQ4] (io), T23 GPIO23[IRQ6] (io), U2 DQM3 (out), U20 GPIO05[TS3] (io), U21 GPIO07[TS5] (io), U22 GPIO08[TS6] (io), V20 ~{TestE}n (in), V21 GPIO19[IRQ2] (io), V22 GPIO20[IRQ3] (io), V23 GPIO06[TS4] (io), W4 DQM2 (out), W20 GPIO30[RejectPkt0] (io), W21 GPIO04[TS2O] (io), W22 GPIO17[IRQ0] (io), W23 GPIO18[IRQ1] (io), Y1 IICSDA (io), Y2 TCK (in), Y14 ~{CA}S (out), Y15 BA0 (out), Y17 SysErr (out), Y21 GPIO31[RejectPkt1] (io), Y22 GPIO02[TS2E] (io), Y23 GPIO03[TS1O] (io)
part B pins: A3 ~{ExtRese}t (out), A6 PerAddr08 (io), A8 PerAddr15 (io), A10 PerAddr21 (io), A11 PerAddr23 (io), A13 PerAddr27 (io), A14 PerAddr30 (io), A15 EMC0Tx1D2 (out), A16 EMC0Tx1En (out), AA4 MemData19 (io), AA5 EMCMDIO (io), AA6 MemData14 (io), AA8 MemData10 (io), AA9 PHY0CrS0 (in), AA10 MemData05 (io), AA11 MemData03 (io), AA12 MemData01 (io), AA13 PHY0Rx0D3 (in), AA14 MemClkOut0 (out), AA16 PHY0Rx0D2 (in), AA17 MemAddr03 (out), AA18 MemAddr05 (out), AA19 MemAddr09 (out), AA20 MemAddr11 (out), AA22 PHY0Rx0D1 (in), AB3 MemData20 (io), AB5 MemData16 (io), AB6 MemData12 (io), AB7 MemData11 (io), AB8 PHY0Col0 (in), AB9 MemData07 (io), AB10 PHY0Rx0Clk (in), AB11 PHY0Rx0Err (in), AB12 MemData00 (io), AB15 MemAddr00 (out), AB16 MemAddr01 (out), AB17 MemAddr02 (out), AB19 MemAddr07 (out), AC4 MemData17 (io), AC5 MemData15 (io), AC8 MemData08 (io), AC9 MemData06 (io), AC11 MemData02 (io), AC18 MemAddr04 (out), AC19 MemAddr06 (out), AC21 MemAddr12 (out), B3 PerReady (in), B5 PHY0CrS1 (in), B6 PerAddr07 (io), B7 PerAddr11 (io), B8 PerAddr13 (io), B10 PerAddr19 (io), B12 PerAddr25 (io), B13 PerAddr28 (io), B14 PerAddr31 (io), B15 EMC0Tx1D0 (out), C1 PHY0Rx1Err (in), C4 PerClk (out), C5 PHY0Col1 (in), C6 PHY0Tx1Clk (in), C7 PerAddr10 (io), C8 PerAddr12 (io), C9 PerAddr16 (io), C10 PerAddr18 (io), C11 PerAddr22 (io), C12 PerAddr26 (io), C13 PerAddr29 (io), C14 EMC0Tx1D1 (out), C15 EMC0Tx1Err (out), D1 PerData15 (io), D2 PerR/~{W} (out), D6 PHY0Rx1DV (in), D7 PerAddr06 (io), D8 PerAddr09 (io), D9 PerAddr14 (io), D10 PerAddr17 (io), D11 PerAddr20 (io), D12 PerAddr24 (io), D14 EMC0Tx1D3 (out), E1 ~{PerWBE}1 (out), E2 PHY0Rx1Clk (in), E4 ~{PerCS}0 (out), F1 PerData14 (io), F2 PHY0Rx1D3 (in), F3 ~{PerWBE}0 (out), F4 ~{PerO}E (out), G2 PerData11 (io), G3 PHY0Rx1D2 (in), G4 PerData12 (io), H1 PerData09 (io), H3 PHY0Rx1D1 (in), H4 PerData13 (io), J4 PerData10 (io), K2 PerData07 (io), K3 PerData08 (io), L1 EMC0Tx0D2 (out), L2 PerData05 (io), L3 PerData06 (io), M2 PerData03 (io), M3 PerData04 (io), N3 EMC0Tx0D1 (out), N4 PerData01 (io), P1 PerData02 (io), P2 PerData00 (io), P3 EMC0Tx0D3 (out), R1 PHY0Rx1D0 (in), R2 MemData31 (io), R3 MemData30 (io), R4 MemData29 (io), T2 MemData28 (io), T4 MemData27 (io), U3 EMC0Tx0D0 (out), U4 MemData25 (io), V2 MemData26 (io), V3 EMC0Tx0Err (out), V4 MemData23 (io), W1 EMC0Tx0En (out), W2 MemData24 (io), W3 MemData22 (io), Y3 MemData21 (io), Y5 MemData18 (io), Y6 EMCMDClk (out), Y7 MemData13 (io), Y8 PHY0Tx0Clk (in), Y9 MemData09 (io), Y10 PHY0Rx0DV (in), Y11 MemData04 (io), Y13 MemClkOut1 (out), Y16 PHY0Rx0D0 (in), Y18 MemAddr08 (out), Y19 MemAddr10 (out)
part C pins: A1 GND (power), A2 GND (power), A7 GND (power), A12 GND (power), A17 GND (power), A22 GND (power), A23 GND (power), AA3 GND (power), AA21 GND (power), AB1 GND (power), AB2 GND (power), AB22 GND (power), AB23 GND (power), AC1 GND (power), AC2 GND (power), AC6 OVDD (power), AC7 GND (power), AC12 GND (power), AC17 GND (power), AC22 GND (power), AC23 GND (power), B1 GND (power), B2 GND (power), B9 OVDD (power), B11 OVDD (power), B19 OVDD (power), B22 GND (power), B23 GND (power), C3 GND (power), C17 OVDD (power), C21 GND (power), D4 GND (power), D13 OVDD (power), D20 GND (power), E5 GND (power), E6 OVDD (power), E7 OVDD (power), E8 OVDD (power), E9 GND (power), E10 VDD (power), E11 VDD (power), E12 GND (power), E13 VDD (power), E14 VDD (power), E15 GND (power), E16 OVDD (power), E17 OVDD (power), E18 OVDD (power), E19 GND (power), E21 OVDD (power), F5 OVDD (power), F19 OVDD (power), F23 OVDD (power), G1 GND (power), G5 OVDD (power), G19 OVDD (power), G23 GND (power), H5 OVDD (power), H19 OVDD (power), H22 OVDD (power), J5 GND (power), J19 GND (power), K4 OVDD (power), K5 VDD (power), K10 GND (power) "Thermal Balls", K11 GND (power) "Thermal Balls", K12 GND (power) "Thermal Balls", K13 GND (power) "Thermal Balls", K14 GND (power) "Thermal Balls", K19 VDD (power), K20 OVDD (power), K23 OVDD (power), L5 VDD (power), L10 GND (power) "Thermal Balls", L11 GND (power) "Thermal Balls", L12 GND (power) "Thermal Balls", L13 GND (power) "Thermal Balls", L14 GND (power) "Thermal Balls", L19 VDD (power), M1 GND (power), M5 GND (power), M10 GND (power) "Thermal Balls", M11 GND (power) "Thermal Balls", M12 GND (power) "Thermal Balls", M13 GND (power) "Thermal Balls", M14 GND (power) "Thermal Balls", M19 GND (power), M20 GND (power), M22 OVDD (power), M23 GND (power), N1 OVDD (power), N5 VDD (power), N10 GND (power) "Thermal Balls", N11 GND (power) "Thermal Balls", N12 GND (power) "Thermal Balls", N13 GND (power) "Thermal Balls", N14 GND (power) "Thermal Balls", N19 VDD (power), P5 VDD (power), P10 GND (power) "Thermal Balls", P11 GND (power) "Thermal Balls", P12 GND (power) "Thermal Balls", P13 GND (power) "Thermal Balls", P14 GND (power) "Thermal Balls", P19 VDD (power), P20 OVDD (power), P23 OVDD (power), R5 GND (power), R19 GND (power), T5 OVDD (power), T19 OVDD (power), T20 OVDD (power), U1 GND (power), U5 OVDD (power), U19 OVDD (power), U23 GND (power), V1 OVDD (power), V5 OVDD (power), V19 OVDD (power), W5 GND (power), W6 OVDD (power), W7 OVDD (power), W8 OVDD (power), W9 GND (power), W10 VDD (power), W11 VDD (power), W12 GND (power), W13 VDD (power), W14 VDD (power), W15 GND (power), W16 OVDD (power), W17 OVDD (power), W18 OVDD (power), W19 GND (power), Y4 GND (power), Y12 OVDD (power), Y20 GND (power)

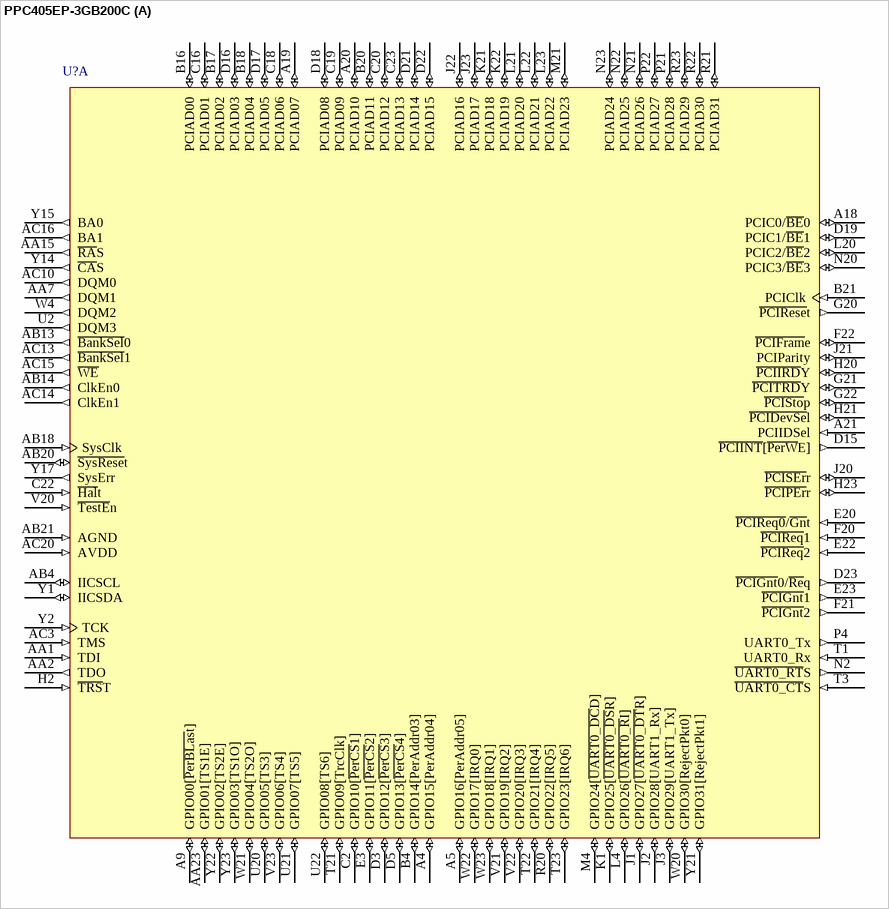
[diagram p20: symbol PPC405EP-3GB200C]

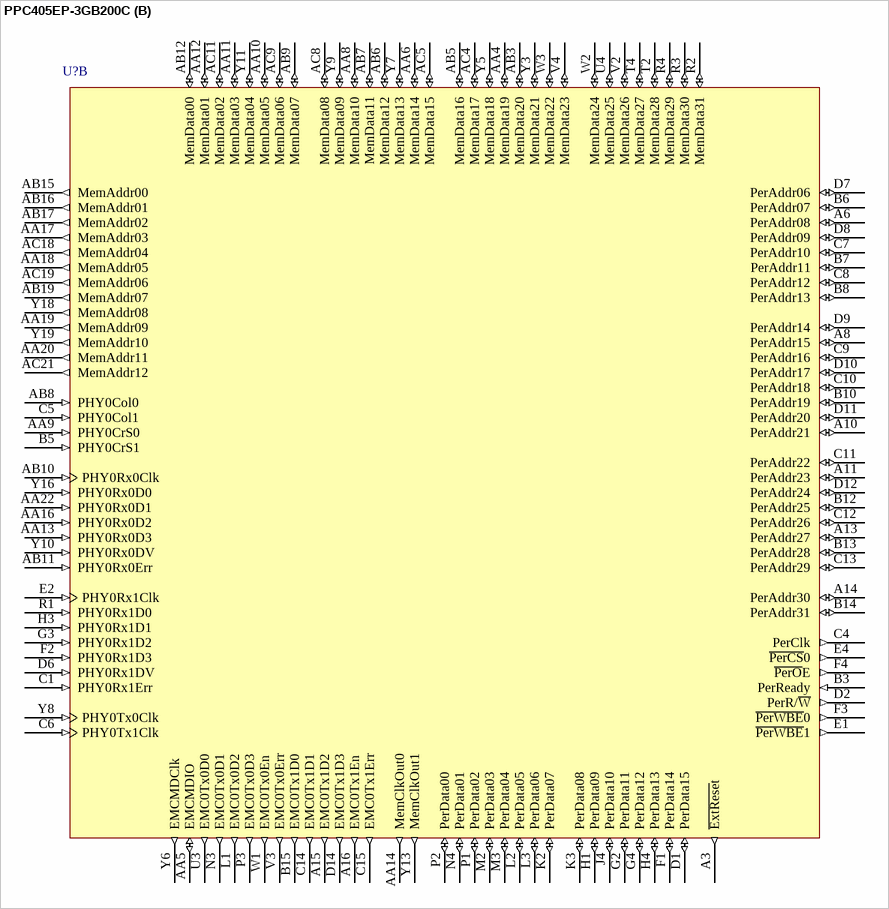
[diagram p21: symbol PPC405EP-3GB200C]

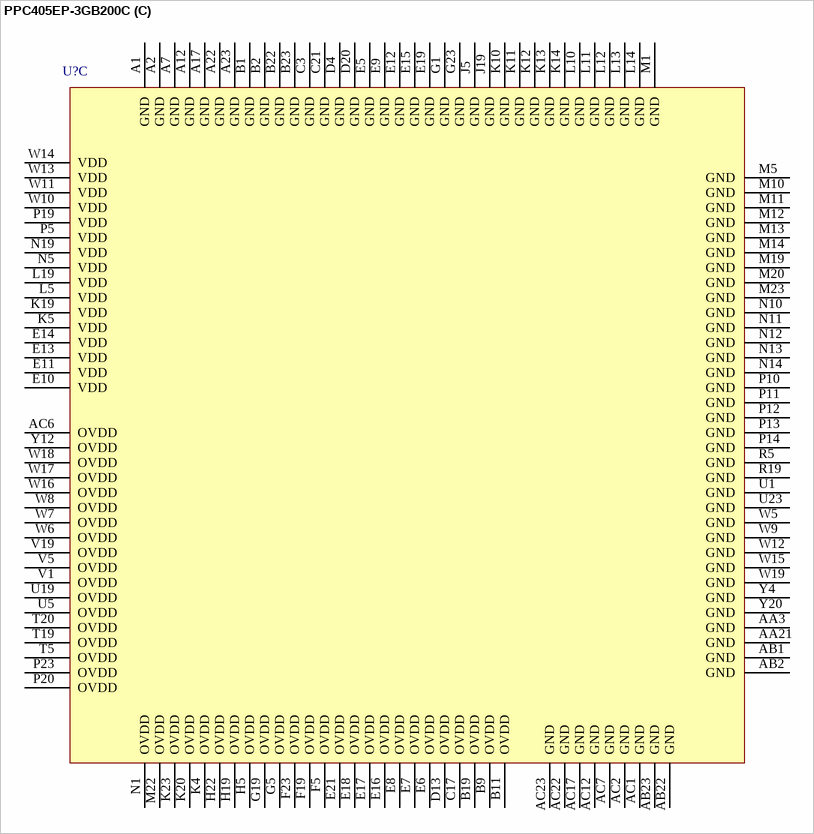
[diagram p22: symbol PPC405EP-3GB200C]

## PPC405EP-3GB200C
designator U?
PowerPC 405EP Embedded Processor, 200MHz, 31mm, 385 Ball E-PBGA; Published: 6-Oct-2005; LatestRevisionDate: 13-Apr-2006; LatestRevisionNote: IPC-7351 Footprint Added.; DatasheetVersion: rev1.02, Jan-2005; PackageVersion: Jan-2005; PackageReference: E-PBGA385; Publisher: Altium Limited; PackageDescription: 385-Ball Enhanced Plastic Ball Grid Array; ComponentLink1Description: Manufacturer Link; ComponentLink1URL: http://www.amcc.com/; ComponentLink2Description: Datasheet; ComponentLink2URL: https://www.amcc.com/MyAMCC/retrieveDocument/PowerPC/405EP/PPC405EP_DS2003__v1_02.pdf
footprint E-PBGA385 (BGA, 385-Leads, Body 31x31mm, Pitch 1.27mm)
3D model PPC405EP-E-PBGA385 (385-Ball Enhanced Plastic Ball Grid Array)
part A pins: A4 GPIO15[PerAddr04] (io), A5 GPIO16[PerAddr05] (io), A9 GPIO00[~{PerBLas}t] (io), A18 PCIC0/~{BE}0 (io), A19 PCIAD07 (io), A20 PCIAD10 (io), A21 PCIIDSel (in), AA1 TDI (in), AA2 TDO (out), AA7 DQM1 (out), AA15 ~{RA}S (out), AA23 GPIO01[TS1E] (io), AB4 IICSCL (io), AB13 ~{BankSel}0 (out), AB14 ClkEn0 (out), AB18 SysClk (in), AB20 ~{SysRese}t (io), AB21 AGND (in), AC3 TMS (in), AC10 DQM0 (out), AC13 ~{BankSel}1 (out), AC14 ClkEn1 (out), AC15 ~{WE} (out), AC16 BA1 (out), AC20 AVDD (in), B4 GPIO14[PerAddr03] (io), B16 PCIAD00 (io), B17 PCIAD02 (io), B18 PCIAD04 (io), B20 PCIAD11 (io), B21 PCIClk (in), C2 GPIO10[~{PerCS}1] (io), C16 PCIAD01 (io), C18 PCIAD06 (io), C19 PCIAD09 (io), C20 PCIAD12 (io), C22 ~{Hal}t (in), C23 PCIAD13 (io), D3 GPIO12[~{PerCS}3] (io), D5 GPIO13[~{PerCS}4] (io), D15 ~{PCIINT}[~{PerW}E] (out), D16 PCIAD03 (io), D17 PCIAD05 (io), D18 PCIAD08 (io), D19 PCIC1/~{BE}1 (io), D21 PCIAD14 (io), D22 PCIAD15 (io), D23 ~{PCIGnt}0/~{Re}q (out), E3 GPIO11[~{PerCS}2] (io), E20 ~{PCIReq0}/~{Gn}t (in), E22 ~{PCIReq}2 (in), E23 ~{PCIGnt}1 (out), F20 ~{PCIReq}1 (in), F21 ~{PCIGnt}2 (out), F22 ~{PCIFram}e (io), G20 ~{PCIRese}t (out), G21 ~{PCITRD}Y (io), G22 ~{PCISto}p (io), H2 ~{TRS}T (in), H20 ~{PCIIRD}Y (io), H21 ~{PCIDevSe}l (io), H23 ~{PCIPEr}r (io), J1 GPIO27[~{UART0_DT}R] (io), J2 GPIO28[UART1_Rx] (io), J3 GPIO29[UART1_Tx] (io), J20 ~{PCISEr}r (io), J21 PCIParity (io), J22 PCIAD16 (io), J23 PCIAD17 (io), K1 GPIO25[~{UART0_DS}R] (io), K21 PCIAD18 (io), K22 PCIAD19 (io), L4 GPIO26[~{UART0_R}I] (io), L20 PCIC2/~{BE}2 (io), L21 PCIAD20 (io), L22 PCIAD21 (io), L23 PCIAD22 (io), M4 GPIO24[~{UART0_DC}D] (io), M21 PCIAD23 (io), N2 ~{UART0_RT}S (out), N20 PCIC3/~{BE}3 (io), N21 PCIAD26 (io), N22 PCIAD25 (io), N23 PCIAD24 (io), P4 UART0_Tx (out), P21 PCIAD28 (io), P22 PCIAD27 (io), R20 GPIO22[IRQ5] (io), R21 PCIAD31 (io), R22 PCIAD30 (io), R23 PCIAD29 (io), T1 UART0_Rx (in), T3 ~{UART0_CT}S (in), T21 GPIO09[TrcClk] (io), T22 GPIO21[IRQ4] (io), T23 GPIO23[IRQ6] (io), U2 DQM3 (out), U20 GPIO05[TS3] (io), U21 GPIO07[TS5] (io), U22 GPIO08[TS6] (io), V20 ~{TestE}n (in), V21 GPIO19[IRQ2] (io), V22 GPIO20[IRQ3] (io), V23 GPIO06[TS4] (io), W4 DQM2 (out), W20 GPIO30[RejectPkt0] (io), W21 GPIO04[TS2O] (io), W22 GPIO17[IRQ0] (io), W23 GPIO18[IRQ1] (io), Y1 IICSDA (io), Y2 TCK (in), Y14 ~{CA}S (out), Y15 BA0 (out), Y17 SysErr (out), Y21 GPIO31[RejectPkt1] (io), Y22 GPIO02[TS2E] (io), Y23 GPIO03[TS1O] (io)
part B pins: A3 ~{ExtRese}t (out), A6 PerAddr08 (io), A8 PerAddr15 (io), A10 PerAddr21 (io), A11 PerAddr23 (io), A13 PerAddr27 (io), A14 PerAddr30 (io), A15 EMC0Tx1D2 (out), A16 EMC0Tx1En (out), AA4 MemData19 (io), AA5 EMCMDIO (io), AA6 MemData14 (io), AA8 MemData10 (io), AA9 PHY0CrS0 (in), AA10 MemData05 (io), AA11 MemData03 (io), AA12 MemData01 (io), AA13 PHY0Rx0D3 (in), AA14 MemClkOut0 (out), AA16 PHY0Rx0D2 (in), AA17 MemAddr03 (out), AA18 MemAddr05 (out), AA19 MemAddr09 (out), AA20 MemAddr11 (out), AA22 PHY0Rx0D1 (in), AB3 MemData20 (io), AB5 MemData16 (io), AB6 MemData12 (io), AB7 MemData11 (io), AB8 PHY0Col0 (in), AB9 MemData07 (io), AB10 PHY0Rx0Clk (in), AB11 PHY0Rx0Err (in), AB12 MemData00 (io), AB15 MemAddr00 (out), AB16 MemAddr01 (out), AB17 MemAddr02 (out), AB19 MemAddr07 (out), AC4 MemData17 (io), AC5 MemData15 (io), AC8 MemData08 (io), AC9 MemData06 (io), AC11 MemData02 (io), AC18 MemAddr04 (out), AC19 MemAddr06 (out), AC21 MemAddr12 (out), B3 PerReady (in), B5 PHY0CrS1 (in), B6 PerAddr07 (io), B7 PerAddr11 (io), B8 PerAddr13 (io), B10 PerAddr19 (io), B12 PerAddr25 (io), B13 PerAddr28 (io), B14 PerAddr31 (io), B15 EMC0Tx1D0 (out), C1 PHY0Rx1Err (in), C4 PerClk (out), C5 PHY0Col1 (in), C6 PHY0Tx1Clk (in), C7 PerAddr10 (io), C8 PerAddr12 (io), C9 PerAddr16 (io), C10 PerAddr18 (io), C11 PerAddr22 (io), C12 PerAddr26 (io), C13 PerAddr29 (io), C14 EMC0Tx1D1 (out), C15 EMC0Tx1Err (out), D1 PerData15 (io), D2 PerR/~{W} (out), D6 PHY0Rx1DV (in), D7 PerAddr06 (io), D8 PerAddr09 (io), D9 PerAddr14 (io), D10 PerAddr17 (io), D11 PerAddr20 (io), D12 PerAddr24 (io), D14 EMC0Tx1D3 (out), E1 ~{PerWBE}1 (out), E2 PHY0Rx1Clk (in), E4 ~{PerCS}0 (out), F1 PerData14 (io), F2 PHY0Rx1D3 (in), F3 ~{PerWBE}0 (out), F4 ~{PerO}E (out), G2 PerData11 (io), G3 PHY0Rx1D2 (in), G4 PerData12 (io), H1 PerData09 (io), H3 PHY0Rx1D1 (in), H4 PerData13 (io), J4 PerData10 (io), K2 PerData07 (io), K3 PerData08 (io), L1 EMC0Tx0D2 (out), L2 PerData05 (io), L3 PerData06 (io), M2 PerData03 (io), M3 PerData04 (io), N3 EMC0Tx0D1 (out), N4 PerData01 (io), P1 PerData02 (io), P2 PerData00 (io), P3 EMC0Tx0D3 (out), R1 PHY0Rx1D0 (in), R2 MemData31 (io), R3 MemData30 (io), R4 MemData29 (io), T2 MemData28 (io), T4 MemData27 (io), U3 EMC0Tx0D0 (out), U4 MemData25 (io), V2 MemData26 (io), V3 EMC0Tx0Err (out), V4 MemData23 (io), W1 EMC0Tx0En (out), W2 MemData24 (io), W3 MemData22 (io), Y3 MemData21 (io), Y5 MemData18 (io), Y6 EMCMDClk (out), Y7 MemData13 (io), Y8 PHY0Tx0Clk (in), Y9 MemData09 (io), Y10 PHY0Rx0DV (in), Y11 MemData04 (io), Y13 MemClkOut1 (out), Y16 PHY0Rx0D0 (in), Y18 MemAddr08 (out), Y19 MemAddr10 (out)
part C pins: A1 GND (power), A2 GND (power), A7 GND (power), A12 GND (power), A17 GND (power), A22 GND (power), A23 GND (power), AA3 GND (power), AA21 GND (power), AB1 GND (power), AB2 GND (power), AB22 GND (power), AB23 GND (power), AC1 GND (power), AC2 GND (power), AC6 OVDD (power), AC7 GND (power), AC12 GND (power), AC17 GND (power), AC22 GND (power), AC23 GND (power), B1 GND (power), B2 GND (power), B9 OVDD (power), B11 OVDD (power), B19 OVDD (power), B22 GND (power), B23 GND (power), C3 GND (power), C17 OVDD (power), C21 GND (power), D4 GND (power), D13 OVDD (power), D20 GND (power), E5 GND (power), E6 OVDD (power), E7 OVDD (power), E8 OVDD (power), E9 GND (power), E10 VDD (power), E11 VDD (power), E12 GND (power), E13 VDD (power), E14 VDD (power), E15 GND (power), E16 OVDD (power), E17 OVDD (power), E18 OVDD (power), E19 GND (power), E21 OVDD (power), F5 OVDD (power), F19 OVDD (power), F23 OVDD (power), G1 GND (power), G5 OVDD (power), G19 OVDD (power), G23 GND (power), H5 OVDD (power), H19 OVDD (power), H22 OVDD (power), J5 GND (power), J19 GND (power), K4 OVDD (power), K5 VDD (power), K10 GND (power) "Thermal Balls", K11 GND (power) "Thermal Balls", K12 GND (power) "Thermal Balls", K13 GND (power) "Thermal Balls", K14 GND (power) "Thermal Balls", K19 VDD (power), K20 OVDD (power), K23 OVDD (power), L5 VDD (power), L10 GND (power) "Thermal Balls", L11 GND (power) "Thermal Balls", L12 GND (power) "Thermal Balls", L13 GND (power) "Thermal Balls", L14 GND (power) "Thermal Balls", L19 VDD (power), M1 GND (power), M5 GND (power), M10 GND (power) "Thermal Balls", M11 GND (power) "Thermal Balls", M12 GND (power) "Thermal Balls", M13 GND (power) "Thermal Balls", M14 GND (power) "Thermal Balls", M19 GND (power), M20 GND (power), M22 OVDD (power), M23 GND (power), N1 OVDD (power), N5 VDD (power), N10 GND (power) "Thermal Balls", N11 GND (power) "Thermal Balls", N12 GND (power) "Thermal Balls", N13 GND (power) "Thermal Balls", N14 GND (power) "Thermal Balls", N19 VDD (power), P5 VDD (power), P10 GND (power) "Thermal Balls", P11 GND (power) "Thermal Balls", P12 GND (power) "Thermal Balls", P13 GND (power) "Thermal Balls", P14 GND (power) "Thermal Balls", P19 VDD (power), P20 OVDD (power), P23 OVDD (power), R5 GND (power), R19 GND (power), T5 OVDD (power), T19 OVDD (power), T20 OVDD (power), U1 GND (power), U5 OVDD (power), U19 OVDD (power), U23 GND (power), V1 OVDD (power), V5 OVDD (power), V19 OVDD (power), W5 GND (power), W6 OVDD (power), W7 OVDD (power), W8 OVDD (power), W9 GND (power), W10 VDD (power), W11 VDD (power), W12 GND (power), W13 VDD (power), W14 VDD (power), W15 GND (power), W16 OVDD (power), W17 OVDD (power), W18 OVDD (power), W19 GND (power), Y4 GND (power), Y12 OVDD (power), Y20 GND (power)

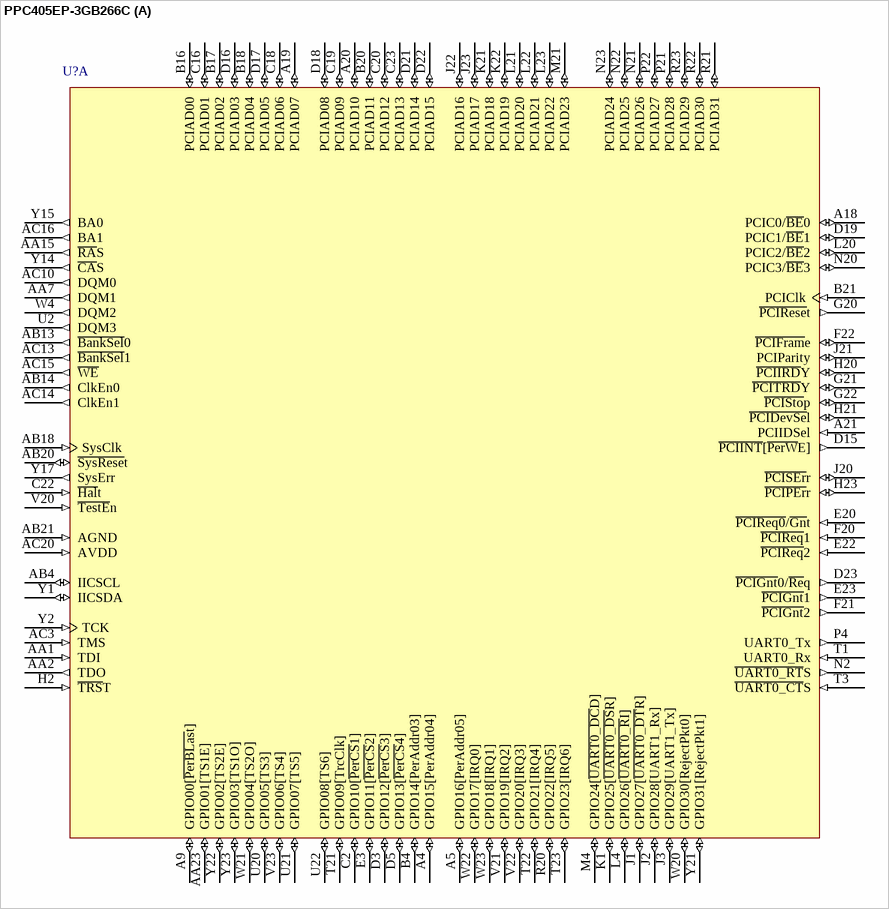
[diagram p23: symbol PPC405EP-3GB266C]

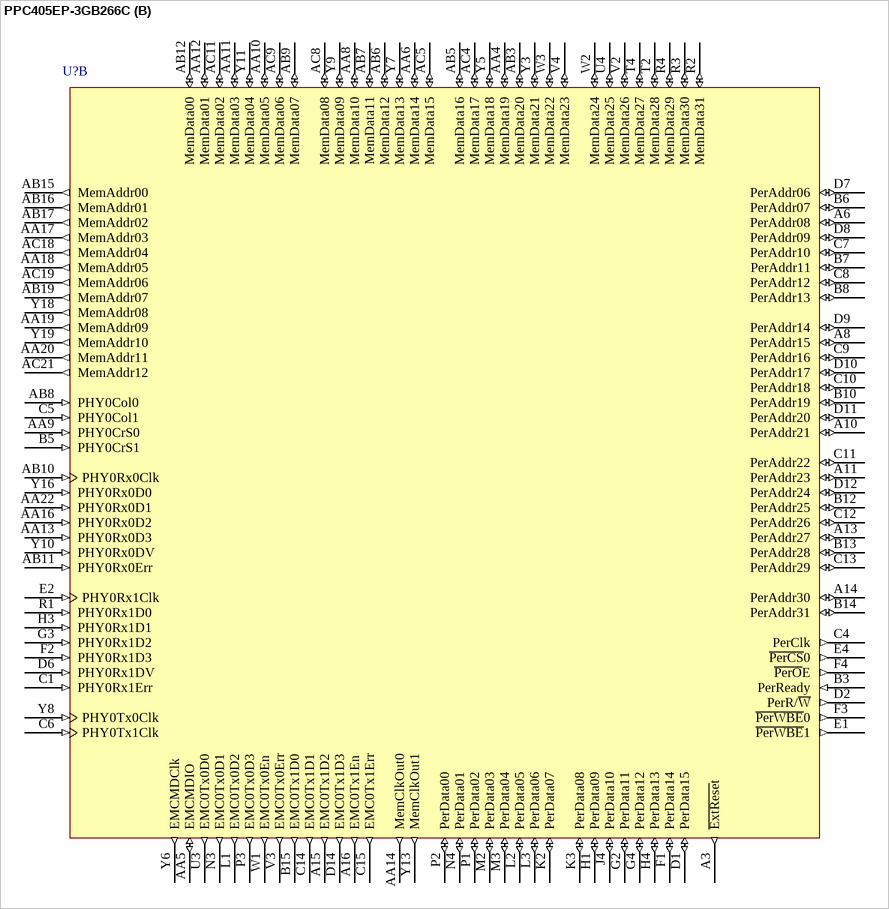
[diagram p24: symbol PPC405EP-3GB266C]

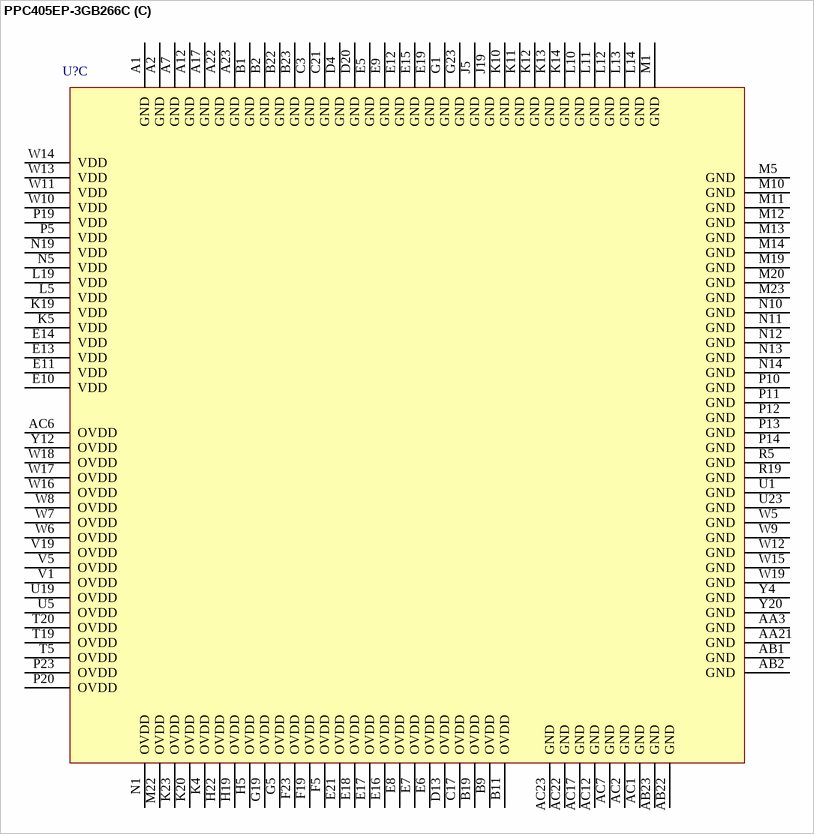
[diagram p25: symbol PPC405EP-3GB266C]